# EAGLE library part DRV8704 (library drv8704)
DRV8704 Dual H-Bridge PWM Gate Driver
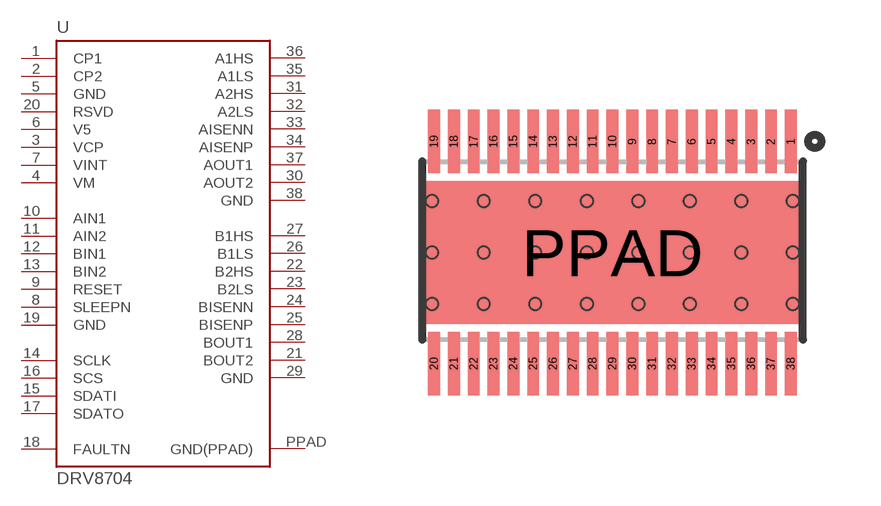
[diagram p0: symbol with the pads of HTSSOP-38; footprint HTSSOP-38]

Designator prefix -

## DRV8704  [HTSSOP-38]
1  CP1
2  CP2
3  VCP
4  VM
5  GND
6  V5
7  VINT
8  SLEEPN
9  RESET
10  AIN1
11  AIN2
12  BIN1
13  BIN2
14  SCLK
15  SDATI
16  SCS
17  SDATO
18  FAULTN
19  GND
20  RSVD
21  BOUT2
22  B2HS
23  B2LS
24  BISENN
25  BISENP
26  B1LS
27  B1HS
28  BOUT1
29  GND
30  AOUT2
31  A2HS
32  A2LS
33  AISENN
34  AISENP
35  A1LS
36  A1HS
37  AOUT1
38  GND
PPAD  GND(PPAD)

## Footprint HTSSOP-38 (pad centres in mm)
smd 0.3 x 1.6: 1 9.15,-0.8; 2 8.65,-0.8; 3 8.15,-0.8; 4 7.65,-0.8; 5 7.15,-0.8; 6 6.65,-0.8; 7 6.15,-0.8; 8 5.65,-0.8; 9 5.15,-0.8; 10 4.65,-0.8; 11 4.15,-0.8; 12 3.65,-0.8; 13 3.15,-0.8; 14 2.65,-0.8; 15 2.15,-0.8; 16 1.65,-0.8; 17 1.15,-0.8; 18 0.65,-0.8; 19 0.15,-0.8; 20 0.15,-6.4; 21 0.65,-6.4; 22 1.15,-6.4; 23 1.65,-6.4; 24 2.15,-6.4; 25 2.65,-6.4; 26 3.15,-6.4; 27 3.65,-6.4; 28 4.15,-6.4; 29 4.65,-6.4; 30 5.15,-6.4; 31 5.65,-6.4; 32 6.15,-6.4; 33 6.65,-6.4; 34 7.15,-6.4; 35 7.65,-6.4; 36 8.15,-6.4; 37 8.65,-6.4; 38 9.15,-6.4
smd 9.7 x 3.6: PPAD 4.65,-3.6
hole 0.3 at 0.1,-2.3
hole 0.3 at 0.1,-3.6
hole 0.3 at 0.1,-4.9
hole 0.3 at 1.4,-2.3
hole 0.3 at 1.4,-3.6
hole 0.3 at 1.4,-4.9
hole 0.3 at 2.7,-2.3
hole 0.3 at 2.7,-3.6
hole 0.3 at 2.7,-4.9
hole 0.3 at 4,-2.3
hole 0.3 at 4,-3.6
hole 0.3 at 4,-4.9
hole 0.3 at 5.3,-2.3
hole 0.3 at 5.3,-3.6
hole 0.3 at 5.3,-4.9
hole 0.3 at 6.6,-2.3
hole 0.3 at 6.6,-3.6
hole 0.3 at 6.6,-4.9
hole 0.3 at 7.9,-2.3
hole 0.3 at 7.9,-3.6
hole 0.3 at 7.9,-4.9
hole 0.3 at 9.2,-2.3
hole 0.3 at 9.2,-3.6
hole 0.3 at 9.2,-4.9